# Altium footprint library PCB_motor_driver_v3.PcbLib: 20 footprints (part 2 of 2)
Each footprint in its own frame and in the unit in brackets; x right, y up, seen from the top. Pads: shape width x height; smd on the part's side, far side on the other; paste and mask are expansions set on the pad; w line width, h text height; cw(c..) or ccw(c..) is an arc to the next point about the centre after c.
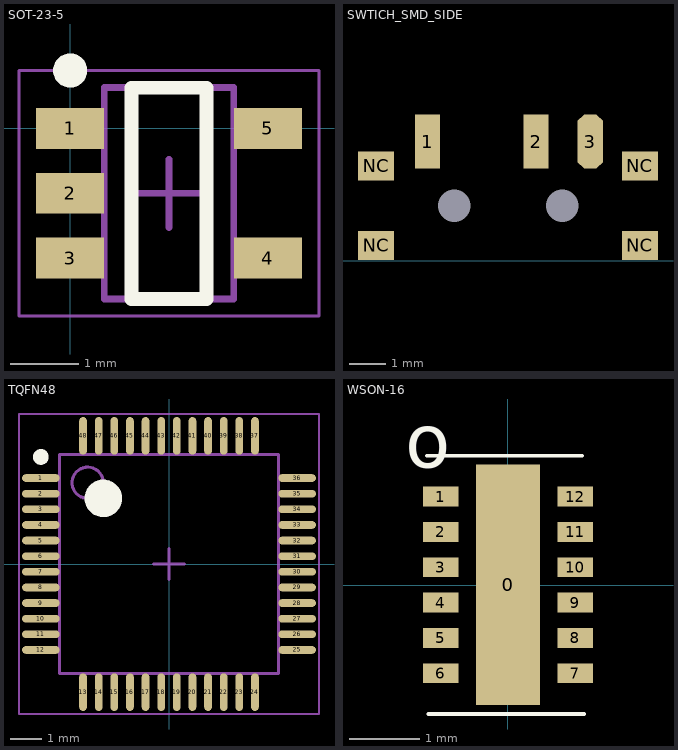
[diagram p1: the footprints below, top view; thin cyan lines are the x and y axes]

## SOT-23-5 [mm]
pads (5):
  rect 1x0.6 smd: 1(0,0) 2(0,-0.95) 3(0,-1.9) 4(2.9,-1.9) 5(2.9,0)
Top Overlay:
  circle w0.25: c0,0.85 r0.125
  lines w0.2: 0.9,-2.5 0.9,0.6 2,0.6 2,-2.5 0.9,-2.5
Mechanical 13:
  lines w0.1: 0.5,-2.5 2.4,-2.5 2.4,0.6 0.5,0.6 0.5,-2.5
Mechanical 15:
  lines w0.05: -0.75,-2.75 3.65,-2.75 3.65,0.85 -0.75,0.85 -0.75,-2.75
  lines w0.1: 0.95,-0.95 1.95,-0.95 ; 1.45,-1.45 1.45,-0.45
3D body "SOT23-5.step": height 1.45, standoff 0, extent -0.25,-2.5 3.15,0.6

## SWTICH_SMD_SIDE [mm]
pads (9):
  round 0 hole 0.9: 0(8.284,1.524) 0(11.279,1.524)
  rect 0.7x1.5 smd: 1(7.547,3.3) 2(10.547,3.3)
  oct 0.7x1.5 smd: 3(12.047,3.3)
  rect 1x0.8 smd: NC(6.122,0.425) NC(6.122,2.625) NC(13.422,0.425) NC(13.422,2.625)
3D body "CUS-12TB.stp": height 1.4, standoff -0.5, extent 5.934,-1.271 13.634,3.729

## TQFN48 [mm]
pads (48):
  oval 1.2x0.25 smd: 1(-4.1,2.75) 2(-4.1,2.25) 3(-4.1,1.75) 4(-4.1,1.25) 5(-4.1,0.75) 6(-4.1,0.25) 7(-4.1,-0.25) 8(-4.1,-0.75) 9(-4.1,-1.25) 10(-4.1,-1.75) 11(-4.1,-2.25) 12(-4.1,-2.75) 25(4.1,-2.75) 26(4.1,-2.25) 27(4.1,-1.75) 28(4.1,-1.25) 29(4.1,-0.75) 30(4.1,-0.25) 31(4.1,0.25) 32(4.1,0.75) 33(4.1,1.25) 34(4.1,1.75) 35(4.1,2.25) 36(4.1,2.75)
  oval 0.25x1.2 smd: 13(-2.75,-4.1) 14(-2.25,-4.1) 15(-1.75,-4.1) 16(-1.25,-4.1) 17(-0.75,-4.1) 18(-0.25,-4.1) 19(0.25,-4.1) 20(0.75,-4.1) 21(1.25,-4.1) 22(1.75,-4.1) 23(2.25,-4.1) 24(2.75,-4.1) 37(2.75,4.1) 38(2.25,4.1) 39(1.75,4.1) 40(1.25,4.1) 41(0.75,4.1) 42(0.25,4.1) 43(-0.25,4.1) 44(-0.75,4.1) 45(-1.25,4.1) 46(-1.75,4.1) 47(-2.25,4.1) 48(-2.75,4.1)
Top Overlay:
  circle w0.25: c-4.1,3.425 r0.125
  circle w0.6: c-2.1,2.1 r0.3
Mechanical 13:
  circle w0.1: c-2.6,2.6 r0.5
  lines w0.1: -3.5,-3.5 -3.5,3.5 3.5,3.5 3.5,-3.5 -3.5,-3.5
Mechanical 15:
  lines w0.05: -4.8,-4.8 -4.8,4.8 4.8,4.8 4.8,-4.8 -4.8,-4.8
  lines w0.1: -0.5,0 0.5,0 ; 0,-0.5 0,0.5
3D body: height 1.2, standoff 0.05, extent -3.5,-3.5 3.5,3.5

## WSON-16 [mm]
pads (13):
  rect 0.9x3.4 smd: 0(0.001,0.003)
  rect 0.5x0.28 smd mask+0.07: 1(-0.949,1.253) 2(-0.949,0.753) 3(-0.949,0.253) 4(-0.949,-0.247) 5(-0.949,-0.747) 6(-0.949,-1.247) 7(0.951,-1.247) 8(0.951,-0.747) 9(0.951,-0.247) 10(0.951,0.253) 11(0.951,0.753) 12(0.951,1.253)
Top Overlay:
  lines w0.05: -1.149,1.828 1.051,1.828 ; -1.124,-1.822 1.076,-1.822
  text "o" at -1.451,1.658 h0.76
3D body: height 0.8, standoff 0, extent -0.997,-1.499 0.997,1.499